# Altium footprint library 282834-2.PcbLib: 1 footprints
Each footprint in its own frame and in the unit in brackets; x right, y up, seen from the top. Pads: shape width x height; smd on the part's side, far side on the other; paste and mask are expansions set on the pad; w line width, h text height; cw(c..) or ccw(c..) is an arc to the next point about the centre after c.
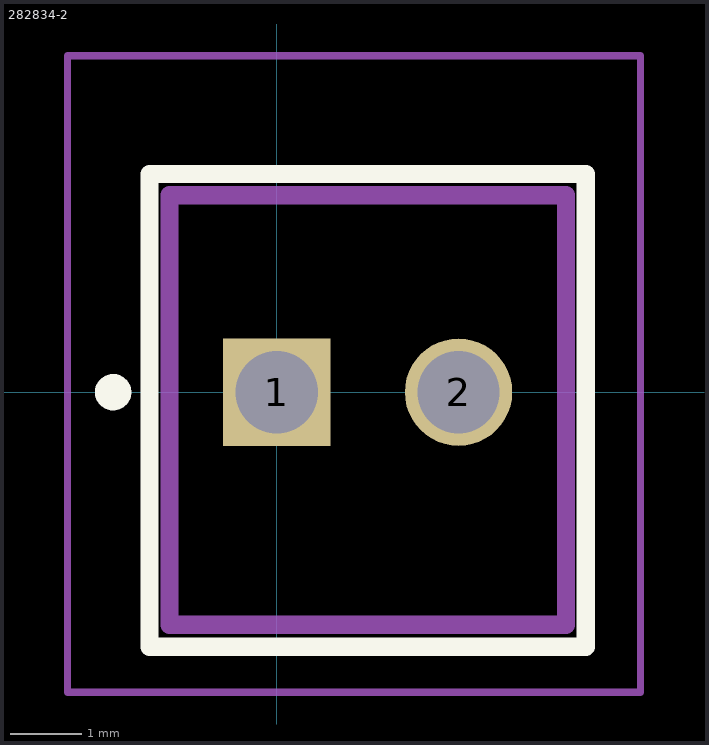
[diagram p0: the footprint, top view; thin cyan lines are the x and y axes]

## 282834-2 [mm] "TERM BLOCK 2POS SIDE ENT 2.54MM"
height 10
pads (2):
  rect 1.5x1.5 hole 1.15: 1(0,0)
  round 1.5 hole 1.15: 2(2.54,0)
Top Overlay:
  circle w0.254: c-2.286,0 r0.127
  lines w0.254: -1.778,-3.556 -1.778,3.048 4.318,3.048 4.318,-3.556 -1.778,-3.556
Mechanical 1:
  lines w0.254: -1.5,-3.25 4.04,-3.25 4.04,2.75 -1.5,2.75 -1.5,-3.25
Mechanical 2:
  text "Opening" at -1.27,3.556 h0.76
Mechanical 3:
  lines w0.1: -2.921,-4.191 5.08,-4.191 5.08,4.699 -2.921,4.699 -2.921,-4.191
3D body: height 10, standoff 0, extent -1.5,-3.25 4.04,2.75